# Altium schematic symbol library 3220-10-0300-00.SchLib: 1 symbol
Pins are listed as number, name and electrical type; pins without a type are passive.

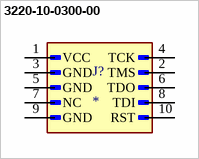
[diagram p0: symbol 3220-10-0300-00]

## 3220-10-0300-00
designator J?
Connector Header Surface Mount 10 position 0.050 (1.27mm); MF: CNC Tech; MP: 3220-10-0300-00; SnapEDA_Link: https://www.snapeda.com/parts/3220-10-0300-00/CNC+Tech/view-part/?ref=snap; Package: None; Value: *; Check_prices: https://www.snapeda.com/parts/3220-10-0300-00/CNC+Tech/view-part/?ref=eda
footprint CNC_3220-10-0300-00
pins: 1 VCC, 2 TMS, 3 GND, 4 TCK, 5 GND, 6 TDO, 7 NC, 8 TDI, 9 GND, 10 RST